# Altium footprint library JTAG EPP.PcbLib: 3 footprints
Each footprint in its own frame and in the unit in brackets; x right, y up, seen from the top. Pads: shape width x height; smd on the part's side, far side on the other; paste and mask are expansions set on the pad; w line width, h text height; cw(c..) or ccw(c..) is an arc to the next point about the centre after c.
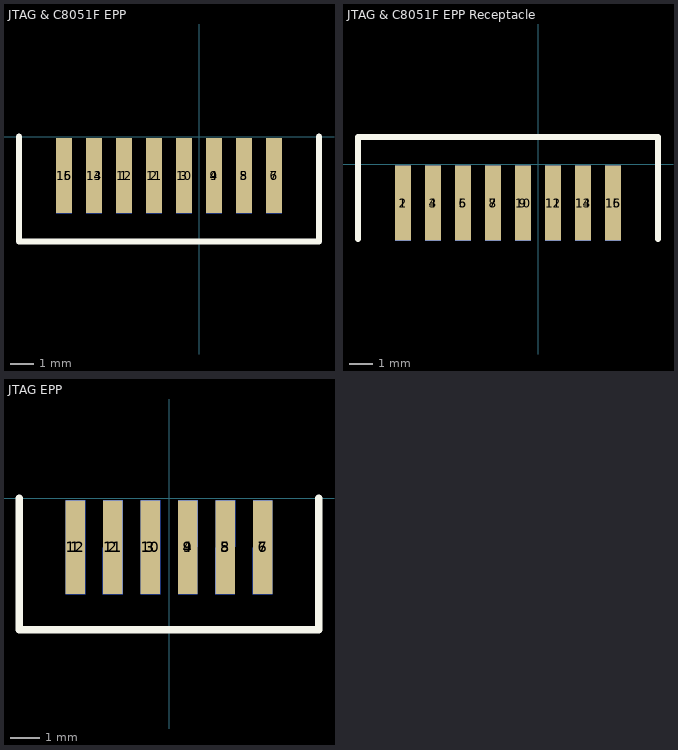
[diagram p0: the footprints below, top view; thin cyan lines are the x and y axes]

## JTAG & C8051F EPP [mil] "JTAG SOIC16 Edge Pin Port and combined C8051 EPP"
pads (16):
  rect 26x125 smd paste-5000 mask+2: 1(-125,-65) 2(-75,-65) 3(-25,-65) 4(25,-65) 5(75,-65) 6(125,-65) 13(-175,-65) 15(-225,-65)
  rect 26x125 smd far side paste-5000 mask+2: 7(125,-65.28) 8(75,-65.28) 9(25,-65.28) 10(-25,-65.28) 11(-75,-65.28) 12(-125,-65.28) 14(-175,-65.28) 16(-225,-65.28)
Top Overlay:
  lines w10: -300,0 -300,-175 200,-175 200,0
Bottom Overlay:
  lines w10: -300,0 -300,-175 200,-175 200,0

## JTAG & C8051F EPP Receptacle [mil] "JTAG SOIC16 Edge Pin Port and combined C8051 EPP"
pads (16):
  rect 26x125 smd far side paste-5000 mask+2: 1(-225,-65.28) 3(-175,-65.28) 5(-125,-65.28) 7(-75,-65.28) 9(-25,-65.28) 11(25,-65.28) 13(75,-65.28) 15(125,-65.28)
  rect 26x125 smd paste-5000 mask+2: 2(-225,-65) 4(-175,-65) 6(-125,-65) 8(-75,-65) 10(-25,-65) 12(25,-65) 14(75,-65) 16(125,-65)
Top Overlay:
  lines w10: -300,-125 -300,45 200,45 200,-125
Bottom Overlay:
  lines w10: -300,-125 -300,45 200,45 200,-125

## JTAG EPP [mil] "JTAG SOIC16 Edge Pin Port"
pads (12):
  rect 26x125 smd: 1(-125,-65) 2(-75,-65) 3(-25,-65) 4(25,-65) 5(75,-65) 6(125,-65)
  rect 26x125 smd far side: 7(125,-65.28) 8(75,-65.28) 9(25,-65.28) 10(-25,-65.28) 11(-75,-65.28) 12(-125,-65.28)
Top Overlay:
  lines w10: -200,0 -200,-175 200,-175 200,0
Bottom Overlay:
  lines w10: -200,0 -200,-175 200,-175 200,0